# Altium schematic symbol library parts.SchLib: 13 symbols
Pins are listed as number, name and electrical type; pins without a type are passive.

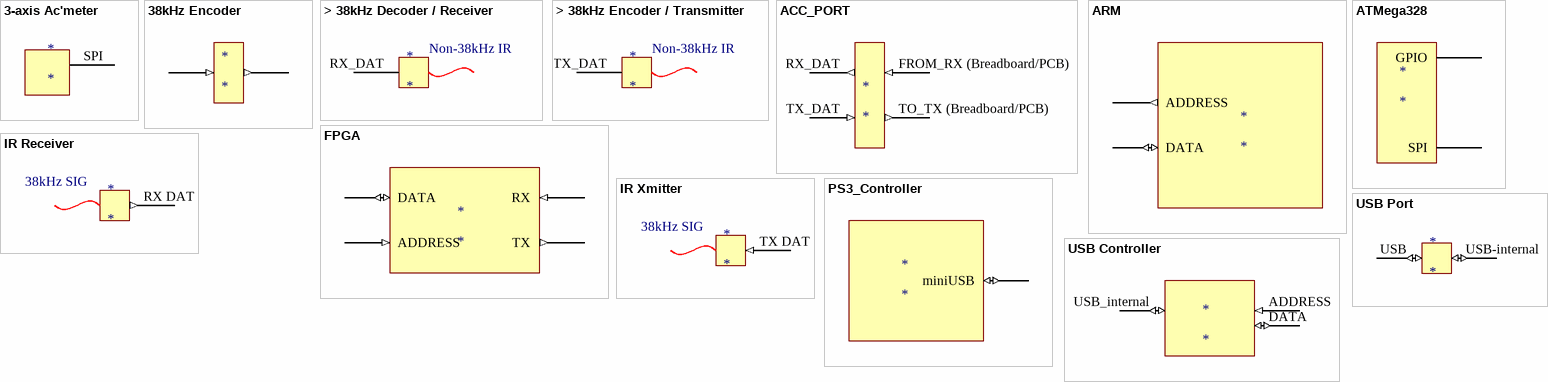
[diagram p0: symbols 3-axis Ac'meter to USB Port]

## 3-axis Ac'meter
designator *
pins: SPI

## 38kHz Encoder
designator *
pins: ?1 (out), ?2 (in)

## > 38kHz Decoder / Receiver
designator *
pins: RX_DAT
text: Non-38kHz IR

## > 38kHz Encoder / Transmitter
designator *
pins: TX_DAT
text: Non-38kHz IR

## ACC_PORT
designator *
pins: FROM_RX (Breadboard/PCB) (in), RX_DAT (out), TO_TX (Breadboard/PCB) (out), TX_DAT (in)

## ARM
designator *
pins: ?1 ADDRESS (out), ?2 DATA (io)

## ATMega328
designator *
pins: 9 SPI, 10 GPIO

## FPGA
designator *
pins: ?1 DATA (io), ?2 ADDRESS (in), ?3 TX (out), ?4 RX (in)

## IR Receiver
designator *
pins: RX DAT (out)
text: 38kHz SIG

## IR Xmitter
designator *
pins: TX DAT (in)
text: 38kHz SIG

## PS3_Controller
designator *
pins: miniUSB (io)

## USB Controller
designator *
pins: ADDRESS (in), DATA (io), USB_internal (io)

## USB Port
designator *
pins: USB (io), USB-internal (io)